# Altium integrated library TI Amplifiers and Linear Operational Amplifier High Speed.IntLib: 1100 symbols (part 38 of 44)
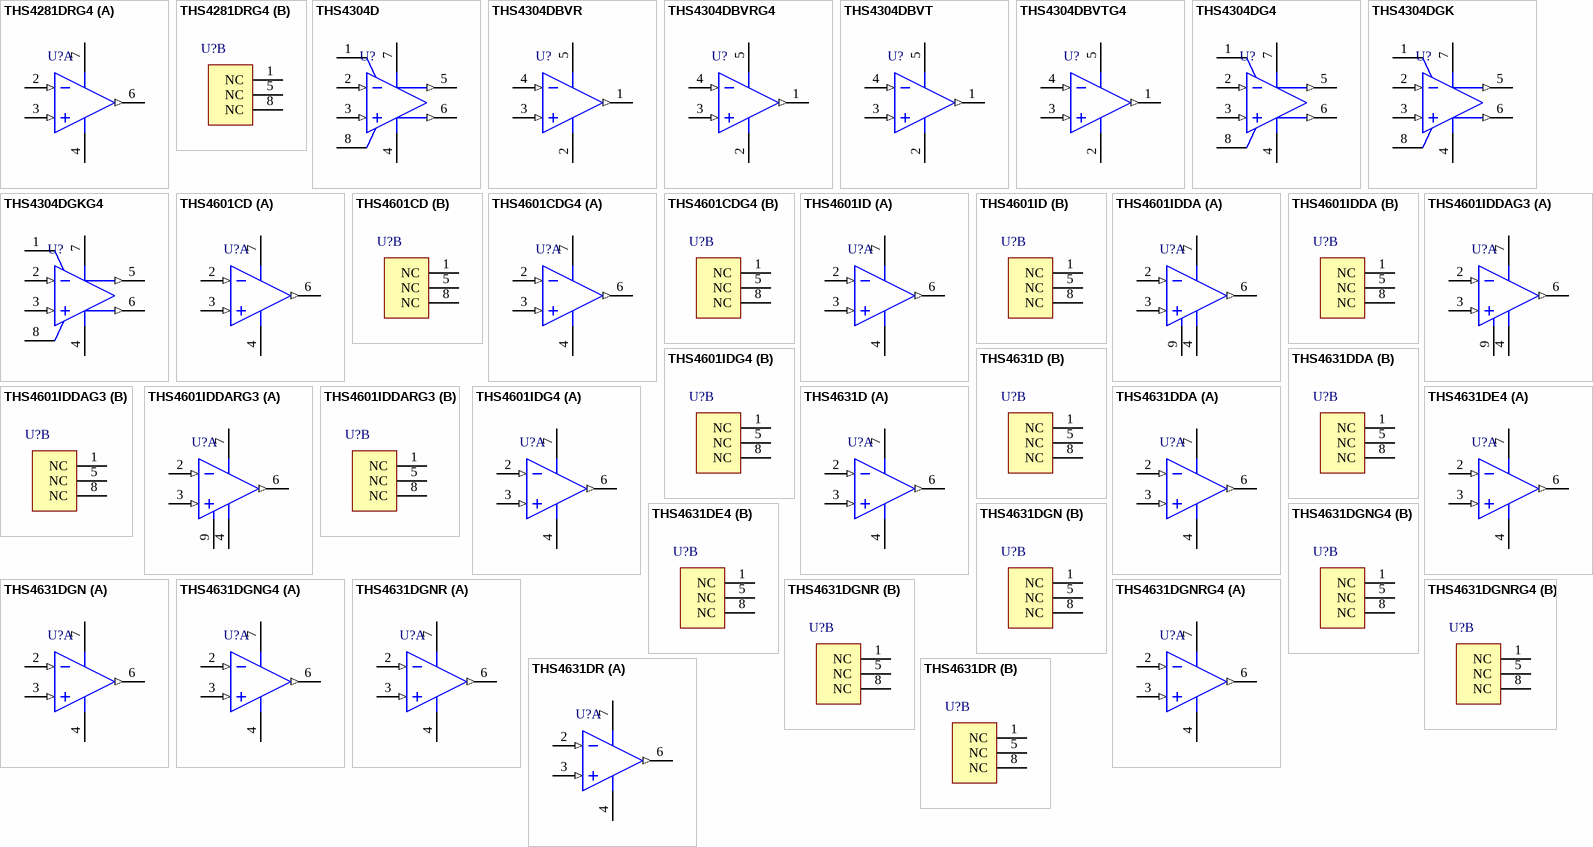
[diagram p88: symbols THS4281DRG4 to THS4631DR]

## THS4304DGKG4
designator U?
Wideband Operational Amplifier, 2.7 to 5 V, -40 to 85 degC, 8-pin SOP (DGK8), Green (RoHS & no Sb/Br); Manufacturer: Texas Instruments; PartNumber: THS4304DGKG4; Acl, min stable gain(V/V): 1; BW @ Acl(MHz): 3000; Io(Typ)(mA): 100; Slew Rate(Typ)(V/us): 830; Sub Family: High Output Current Amplifier (>=50mA), High Speed Amplifier (>=50MHz); Vio(Max)(mV): 4; Vs(Max)(V): 5; Vs(Min)(V): 2.7; DatasheetVersion: SLOS436A; PackageVersion: 4073329/E, 05/2006; PackageReference: DGK8; PackageDescription: 8-Pin Thin Small Outline, Body 3 x 3 mm, Pitch 0.65 mm; Supplier 1: Digi-Key; Supplier Part Number 1: THS4304DGKG4-ND; Supplier 2: Mouser; Supplier Part Number 2: 595-THS4304DGKG4; Eco-Plan: Green (RoHS & no Sb/Br); Number of Channels: 1; Mounting Technology: Surface Mount; Code_JEDEC: MO-187; ComponentLink1Description: Manufacturer URL; ComponentLink1URL: http://www.ti.com/; ComponentLink2Description: Datasheet; ComponentLink2URL: http://www.ti.com/general/docs/lit/getliterature.tsp?genericPartNumber=THS4304&fileType=pdf; ComponentLink3Description: Package Specification; ComponentLink3URL: http://www.ti.com/litv/pdf/mpds028d
footprint TI-DGK8_N (SOP, 8-Leads, Body 3x3mm, Pitch 0.65mm, IPC Medium Density)
footprint TI-DGK8_L (SOP, 8-Leads, Body 3x3mm, Pitch 0.65mm, IPC High Density)
footprint TI-DGK8_M (SOP, 8-Leads, Body 3x3mm, Pitch 0.65mm, IPC Low Density)
pins: 1 NC, 2 IN- (in), 3 IN+ (in), 4 VS- (power), 5 VOUT (out), 6 VOUT (out), 7 VS+ (power), 8 NC

## THS4601CD
designator U?
Wideband, FET-Input Operational Amplifier, 10 to 30 V, 0 to 70 degC, 8-pin SOIC (D8), Green (RoHS & no Sb/Br); Manufacturer: Texas Instruments; PartNumber: THS4601CD; 2nd Harmonic(dBc): 77; 3rd Harmonic(dBc): 96; @ MHz: 1; BW @ Acl(MHz): 180; Diff Gain(%): 0.02; Diff Phase(deg): 0.08; Iib(Max)(nA): 0.1; Io(Typ)(mA): 50; Iq per channel(Max)(mA): 11.7; Settling Time (0.1%)(Typ)(ns): 135; Slew Rate(Typ)(V/us): 100; Sub Family: High Output Current Amplifier (>=50mA), High Speed Amplifier (>=50MHz), High Supply Voltage Amplifier (>=30V); THD (Fc is 1 MHz)(Typ)(dB): -76; Vio(Max)(mV): 4; Vn at Flatband(Typ)(nV/rtHz): 5.4; Vs(Max)(V): 30; Vs(Min)(V): 10; DatasheetVersion: SLOS388B; PackageVersion: 4040047-3/M, 06/2011; PackageReference: D8; PackageDescription: 8-Pin Plastic Small Outline, Body 4.9 x 3.9 mm, Pitch 1.27 mm; Supplier 1: Digi-Key; Supplier Part Number 1: 296-34230-5-ND; Supplier 2: Newark; Supplier Part Number 2: 76C6480; Supplier 3: Mouser; Supplier Part Number 3: 595-THS4601CD; Acl, min stable gain(V/V): 1; Eco-Plan: Green (RoHS & no Sb/Br); Number of Channels: 1; Mounting Technology: Surface Mount; Code_JEDEC: MS-012; ComponentLink1Description: Manufacturer URL; ComponentLink1URL: http://www.ti.com/; ComponentLink2Description: Datasheet; ComponentLink2URL: http://www.ti.com/general/docs/lit/getliterature.tsp?genericPartNumber=THS4601&fileType=pdf; ComponentLink3Description: Package Specification; ComponentLink3URL: http://www.ti.com/litv/pdf/msoi002j
footprint TI-D8_N (SOIC, 8-Leads, Body 4.9x3.9mm, Pitch 1.27mm, IPC Medium Density)
footprint TI-D8_L (SOIC, 8-Leads, Body 4.9x3.9mm, Pitch 1.27mm, IPC High Density)
footprint TI-D8_M (SOIC, 8-Leads, Body 4.9x3.9mm, Pitch 1.27mm, IPC Low Density)
part A pins: 2 IN- (in), 3 IN+ (in), 4 VS- (power), 6 OUT (out), 7 VS+ (power)
part B pins: 1 NC, 5 NC, 8 NC

## THS4601CDG4
designator U?
Wideband, FET-Input Operational Amplifier, 10 to 30 V, 0 to 70 degC, 8-pin SOIC (D8), Green (RoHS & no Sb/Br); Manufacturer: Texas Instruments; PartNumber: THS4601CDG4; 2nd Harmonic(dBc): 77; 3rd Harmonic(dBc): 96; @ MHz: 1; BW @ Acl(MHz): 180; Diff Gain(%): 0.02; Diff Phase(deg): 0.08; Iib(Max)(nA): 0.1; Io(Typ)(mA): 50; Iq per channel(Max)(mA): 11.7; Settling Time (0.1%)(Typ)(ns): 135; Slew Rate(Typ)(V/us): 100; Sub Family: High Output Current Amplifier (>=50mA), High Speed Amplifier (>=50MHz), High Supply Voltage Amplifier (>=30V); THD (Fc is 1 MHz)(Typ)(dB): -76; Vio(Max)(mV): 4; Vn at Flatband(Typ)(nV/rtHz): 5.4; Vs(Max)(V): 30; Vs(Min)(V): 10; DatasheetVersion: SLOS388B; PackageVersion: 4040047-3/M, 06/2011; PackageReference: D8; PackageDescription: 8-Pin Plastic Small Outline, Body 4.9 x 3.9 mm, Pitch 1.27 mm; Supplier 1: Digi-Key; Supplier Part Number 1: THS4601CDG4-ND; Supplier 2: Newark; Supplier Part Number 2: 81K4047; Supplier 3: Mouser; Supplier Part Number 3: 595-THS4601CDG4; Acl, min stable gain(V/V): 1; Eco-Plan: Green (RoHS & no Sb/Br); Number of Channels: 1; Mounting Technology: Surface Mount; Code_JEDEC: MS-012; ComponentLink1Description: Manufacturer URL; ComponentLink1URL: http://www.ti.com/; ComponentLink2Description: Datasheet; ComponentLink2URL: http://www.ti.com/general/docs/lit/getliterature.tsp?genericPartNumber=THS4601&fileType=pdf; ComponentLink3Description: Package Specification; ComponentLink3URL: http://www.ti.com/litv/pdf/msoi002j
footprint TI-D8_N (SOIC, 8-Leads, Body 4.9x3.9mm, Pitch 1.27mm, IPC Medium Density)
footprint TI-D8_L (SOIC, 8-Leads, Body 4.9x3.9mm, Pitch 1.27mm, IPC High Density)
footprint TI-D8_M (SOIC, 8-Leads, Body 4.9x3.9mm, Pitch 1.27mm, IPC Low Density)
part A pins: 2 IN- (in), 3 IN+ (in), 4 VS- (power), 6 OUT (out), 7 VS+ (power)
part B pins: 1 NC, 5 NC, 8 NC

## THS4601ID
designator U?
Wideband, FET-Input Operational Amplifier, 10 to 30 V, -40 to 85 degC, 8-pin SOIC (D8), Green (RoHS & no Sb/Br); Manufacturer: Texas Instruments; PartNumber: THS4601ID; 2nd Harmonic(dBc): 77; 3rd Harmonic(dBc): 96; @ MHz: 1; BW @ Acl(MHz): 180; Diff Gain(%): 0.02; Diff Phase(deg): 0.08; Iib(Max)(nA): 0.1; Io(Typ)(mA): 50; Iq per channel(Max)(mA): 11.7; Settling Time (0.1%)(Typ)(ns): 135; Slew Rate(Typ)(V/us): 100; Sub Family: High Output Current Amplifier (>=50mA), High Speed Amplifier (>=50MHz), High Supply Voltage Amplifier (>=30V); THD (Fc is 1 MHz)(Typ)(dB): -76; Vio(Max)(mV): 4; Vn at Flatband(Typ)(nV/rtHz): 5.4; Vs(Max)(V): 30; Vs(Min)(V): 10; DatasheetVersion: SLOS388B; PackageVersion: 4040047-3/M, 06/2011; PackageReference: D8; PackageDescription: 8-Pin Plastic Small Outline, Body 4.9 x 3.9 mm, Pitch 1.27 mm; Supplier 1: Digi-Key; Supplier Part Number 1: 296-12495-5-ND; Supplier 2: Newark; Supplier Part Number 2: 76C6484; Supplier 3: Mouser; Supplier Part Number 3: 595-THS4601ID; Acl, min stable gain(V/V): 1; Eco-Plan: Green (RoHS & no Sb/Br); Number of Channels: 1; Mounting Technology: Surface Mount; Code_JEDEC: MS-012; ComponentLink1Description: Manufacturer URL; ComponentLink1URL: http://www.ti.com/; ComponentLink2Description: Datasheet; ComponentLink2URL: http://www.ti.com/general/docs/lit/getliterature.tsp?genericPartNumber=THS4601&fileType=pdf; ComponentLink3Description: Package Specification; ComponentLink3URL: http://www.ti.com/litv/pdf/msoi002j
footprint TI-D8_N (SOIC, 8-Leads, Body 4.9x3.9mm, Pitch 1.27mm, IPC Medium Density)
footprint TI-D8_L (SOIC, 8-Leads, Body 4.9x3.9mm, Pitch 1.27mm, IPC High Density)
footprint TI-D8_M (SOIC, 8-Leads, Body 4.9x3.9mm, Pitch 1.27mm, IPC Low Density)
part A pins: 2 IN- (in), 3 IN+ (in), 4 VS- (power), 6 OUT (out), 7 VS+ (power)
part B pins: 1 NC, 5 NC, 8 NC

## THS4601IDDA
designator U?
Wideband, FET-Input Operational Amplifier, 10 to 30 V, -40 to 85 degC, 8-pin SOP (DDA8), Green (RoHS & no Sb/Br); Manufacturer: Texas Instruments; PartNumber: THS4601IDDA; 2nd Harmonic(dBc): 77; 3rd Harmonic(dBc): 96; @ MHz: 1; BW @ Acl(MHz): 180; Diff Gain(%): 0.02; Diff Phase(deg): 0.08; Iib(Max)(nA): 0.1; Io(Typ)(mA): 50; Iq per channel(Max)(mA): 11.7; Settling Time (0.1%)(Typ)(ns): 135; Slew Rate(Typ)(V/us): 100; Sub Family: High Output Current Amplifier (>=50mA), High Speed Amplifier (>=50MHz), High Supply Voltage Amplifier (>=30V); THD (Fc is 1 MHz)(Typ)(dB): -76; Vio(Max)(mV): 4; Vn at Flatband(Typ)(nV/rtHz): 5.4; Vs(Max)(V): 30; Vs(Min)(V): 10; DatasheetVersion: SLOS388B; PackageVersion: 4202561/F, 12/2011; PackageReference: DDA8-3025X2335TP; PackageDescription: 8-Pin PowerPAD(TM) Plastic Small Outline, Body 4.9 x 3.9 mm, Pitch 1.27 mm; Supplier 1: Digi-Key; Supplier Part Number 1: 296-16691-ND; Supplier 2: Newark; Supplier Part Number 2: 76C6485; Supplier 3: Mouser; Supplier Part Number 3: 595-THS4601IDDA; Acl, min stable gain(V/V): 1; Eco-Plan: Green (RoHS & no Sb/Br); Number of Channels: 1; Mounting Technology: Surface Mount; Code_JEDEC: MS-012; ComponentLink1Description: Manufacturer URL; ComponentLink1URL: http://www.ti.com/; ComponentLink2Description: Datasheet; ComponentLink2URL: http://www.ti.com/general/docs/lit/getliterature.tsp?genericPartNumber=THS4601&fileType=pdf; ComponentLink3Description: Package Specification; ComponentLink3URL: http://www.ti.com/litv/pdf/mpds092e
footprint TI-DDA8-3025X2335TP_N (SOP, 8-Leads, Body 4.9x3.9mm, Pitch 1.27mm, Thermal Pad 3.025x2.335mm, IPC Medium Density)
footprint TI-DDA8-3025X2335TP_L (SOP, 8-Leads, Body 4.9x3.9mm, Pitch 1.27mm, Thermal Pad 3.025x2.335mm, IPC High Density)
footprint TI-DDA8-3025X2335TP_M (SOP, 8-Leads, Body 4.9x3.9mm, Pitch 1.27mm, Thermal Pad 3.025x2.335mm, IPC Low Density)
part A pins: 2 IN- (in) "Inverting input of the amplifier", 3 IN+ (in) "Noninverting input of the amplifier", 4 VS- (power) "Negative power supply", 6 OUT (out) "Output of the amplifier", 7 VS+ (power) "Positive power supply", 9 EP "Exposed Thermal Pad."
part B pins: 1 NC "These pins have no internal connection.", 5 NC "These pins have no internal connection.", 8 NC "These pins have no internal connection."

## THS4601IDDAG3
designator U?
Wideband, FET-Input Operational Amplifier, 10 to 30 V, -40 to 85 degC, 8-pin SOP (DDA8), Green (RoHS & no Sb/Br); Manufacturer: Texas Instruments; PartNumber: THS4601IDDAG3; 2nd Harmonic(dBc): 77; 3rd Harmonic(dBc): 96; @ MHz: 1; BW @ Acl(MHz): 180; Diff Gain(%): 0.02; Diff Phase(deg): 0.08; Iib(Max)(nA): 0.1; Io(Typ)(mA): 50; Iq per channel(Max)(mA): 11.7; Settling Time (0.1%)(Typ)(ns): 135; Slew Rate(Typ)(V/us): 100; Sub Family: High Output Current Amplifier (>=50mA), High Speed Amplifier (>=50MHz), High Supply Voltage Amplifier (>=30V); THD (Fc is 1 MHz)(Typ)(dB): -76; Vio(Max)(mV): 4; Vn at Flatband(Typ)(nV/rtHz): 5.4; Vs(Max)(V): 30; Vs(Min)(V): 10; DatasheetVersion: SLOS388B; PackageVersion: 4202561/F, 12/2011; PackageReference: DDA8-3025X2335TP; PackageDescription: 8-Pin PowerPAD(TM) Plastic Small Outline, Body 4.9 x 3.9 mm, Pitch 1.27 mm; Supplier 1: Digi-Key; Supplier Part Number 1: THS4601IDDAG3-ND; Supplier 2: Mouser; Supplier Part Number 2: 595-THS4601IDDAG3; Acl, min stable gain(V/V): 1; Eco-Plan: Green (RoHS & no Sb/Br); Number of Channels: 1; Mounting Technology: Surface Mount; Code_JEDEC: MS-012; ComponentLink1Description: Manufacturer URL; ComponentLink1URL: http://www.ti.com/; ComponentLink2Description: Datasheet; ComponentLink2URL: http://www.ti.com/general/docs/lit/getliterature.tsp?genericPartNumber=THS4601&fileType=pdf; ComponentLink3Description: Package Specification; ComponentLink3URL: http://www.ti.com/litv/pdf/mpds092e
footprint TI-DDA8-3025X2335TP_N (SOP, 8-Leads, Body 4.9x3.9mm, Pitch 1.27mm, Thermal Pad 3.025x2.335mm, IPC Medium Density)
footprint TI-DDA8-3025X2335TP_L (SOP, 8-Leads, Body 4.9x3.9mm, Pitch 1.27mm, Thermal Pad 3.025x2.335mm, IPC High Density)
footprint TI-DDA8-3025X2335TP_M (SOP, 8-Leads, Body 4.9x3.9mm, Pitch 1.27mm, Thermal Pad 3.025x2.335mm, IPC Low Density)
part A pins: 2 IN- (in) "Inverting input of the amplifier", 3 IN+ (in) "Noninverting input of the amplifier", 4 VS- (power) "Negative power supply", 6 OUT (out) "Output of the amplifier", 7 VS+ (power) "Positive power supply", 9 EP "Exposed Thermal Pad."
part B pins: 1 NC "These pins have no internal connection.", 5 NC "These pins have no internal connection.", 8 NC "These pins have no internal connection."

## THS4601IDDARG3
designator U?
Wideband, FET-Input Operational Amplifier, 10 to 30 V, -40 to 85 degC, 8-pin SOP (DDA8); Manufacturer: Texas Instruments; PartNumber: THS4601IDDARG3; 2nd Harmonic(dBc): 77; 3rd Harmonic(dBc): 96; @ MHz: 1; BW @ Acl(MHz): 180; Diff Gain(%): 0.02; Diff Phase(deg): 0.08; Iib(Max)(nA): 0.1; Io(Typ)(mA): 50; Iq per channel(Max)(mA): 11.7; Settling Time (0.1%)(Typ)(ns): 135; Slew Rate(Typ)(V/us): 100; Sub Family: High Output Current Amplifier (>=50mA), High Speed Amplifier (>=50MHz), High Supply Voltage Amplifier (>=30V); THD (Fc is 1 MHz)(Typ)(dB): -76; Vio(Max)(mV): 4; Vn at Flatband(Typ)(nV/rtHz): 5.4; Vs(Max)(V): 30; Vs(Min)(V): 10; DatasheetVersion: SLOS388B; PackageVersion: 4202561/F, 12/2011; PackageReference: DDA8-3025X2335TP; PackageDescription: 8-Pin PowerPAD(TM) Plastic Small Outline, Body 4.9 x 3.9 mm, Pitch 1.27 mm; Supplier 1: Digi-Key; Supplier Part Number 1: THS4601IDDARG3-ND; Supplier 2: Mouser; Supplier Part Number 2: 595-THS4601IDDARG3; Acl, min stable gain(V/V): 1; Number of Channels: 1; Mounting Technology: Surface Mount; Code_JEDEC: MS-012; ComponentLink1Description: Manufacturer URL; ComponentLink1URL: http://www.ti.com/; ComponentLink2Description: Datasheet; ComponentLink2URL: http://www.ti.com/general/docs/lit/getliterature.tsp?genericPartNumber=THS4601&fileType=pdf; ComponentLink3Description: Package Specification; ComponentLink3URL: http://www.ti.com/litv/pdf/mpds092e
footprint TI-DDA8-3025X2335TP_N (SOP, 8-Leads, Body 4.9x3.9mm, Pitch 1.27mm, Thermal Pad 3.025x2.335mm, IPC Medium Density)
footprint TI-DDA8-3025X2335TP_L (SOP, 8-Leads, Body 4.9x3.9mm, Pitch 1.27mm, Thermal Pad 3.025x2.335mm, IPC High Density)
footprint TI-DDA8-3025X2335TP_M (SOP, 8-Leads, Body 4.9x3.9mm, Pitch 1.27mm, Thermal Pad 3.025x2.335mm, IPC Low Density)
part A pins: 2 IN- (in) "Inverting input of the amplifier", 3 IN+ (in) "Noninverting input of the amplifier", 4 VS- (power) "Negative power supply", 6 OUT (out) "Output of the amplifier", 7 VS+ (power) "Positive power supply", 9 EP "Exposed Thermal Pad."
part B pins: 1 NC "These pins have no internal connection.", 5 NC "These pins have no internal connection.", 8 NC "These pins have no internal connection."

## THS4601IDG4
designator U?
Wideband, FET-Input Operational Amplifier, 10 to 30 V, -40 to 85 degC, 8-pin SOIC (D8), Green (RoHS & no Sb/Br); Manufacturer: Texas Instruments; PartNumber: THS4601IDG4; 2nd Harmonic(dBc): 77; 3rd Harmonic(dBc): 96; @ MHz: 1; BW @ Acl(MHz): 180; Diff Gain(%): 0.02; Diff Phase(deg): 0.08; Iib(Max)(nA): 0.1; Io(Typ)(mA): 50; Iq per channel(Max)(mA): 11.7; Settling Time (0.1%)(Typ)(ns): 135; Slew Rate(Typ)(V/us): 100; Sub Family: High Output Current Amplifier (>=50mA), High Speed Amplifier (>=50MHz), High Supply Voltage Amplifier (>=30V); THD (Fc is 1 MHz)(Typ)(dB): -76; Vio(Max)(mV): 4; Vn at Flatband(Typ)(nV/rtHz): 5.4; Vs(Max)(V): 30; Vs(Min)(V): 10; DatasheetVersion: SLOS388B; PackageVersion: 4040047-3/M, 06/2011; PackageReference: D8; PackageDescription: 8-Pin Plastic Small Outline, Body 4.9 x 3.9 mm, Pitch 1.27 mm; Supplier 1: Digi-Key; Supplier Part Number 1: THS4601IDG4-ND; Supplier 2: Mouser; Supplier Part Number 2: 595-THS4601IDG4; Acl, min stable gain(V/V): 1; Eco-Plan: Green (RoHS & no Sb/Br); Number of Channels: 1; Mounting Technology: Surface Mount; Code_JEDEC: MS-012; ComponentLink1Description: Manufacturer URL; ComponentLink1URL: http://www.ti.com/; ComponentLink2Description: Datasheet; ComponentLink2URL: http://www.ti.com/general/docs/lit/getliterature.tsp?genericPartNumber=THS4601&fileType=pdf; ComponentLink3Description: Package Specification; ComponentLink3URL: http://www.ti.com/litv/pdf/msoi002j
footprint TI-D8_N (SOIC, 8-Leads, Body 4.9x3.9mm, Pitch 1.27mm, IPC Medium Density)
footprint TI-D8_L (SOIC, 8-Leads, Body 4.9x3.9mm, Pitch 1.27mm, IPC High Density)
footprint TI-D8_M (SOIC, 8-Leads, Body 4.9x3.9mm, Pitch 1.27mm, IPC Low Density)
part A pins: 2 IN- (in), 3 IN+ (in), 4 VS- (power), 6 OUT (out), 7 VS+ (power)
part B pins: 1 NC, 5 NC, 8 NC

## THS4631D
designator U?
High Speed FET-Input Operational Amplifier, 10 to 30 V, -40 to 85 degC, 8-pin SOIC (D8), Green (RoHS & no Sb/Br); Manufacturer: Texas Instruments; PartNumber: THS4631D; Acl, min stable gain(V/V): 1; BW @ Acl(MHz): 325; Iib(Max)(nA): 0.1; Io(Typ)(mA): 95; Iq per channel(Max)(mA): 11.5; Slew Rate(Typ)(V/us): 1000; Sub Family: High Output Current Amplifier (>=50mA), High Speed Amplifier (>=50MHz), High Supply Voltage Amplifier (>=30V), Low Input Bias Current Amp (<=10pA), Low Offset Voltage Amplifier (<=500uV); Vio(Max)(mV): 0.5; Vn at Flatband(Typ)(nV/rtHz): 7; Vs(Max)(V): 30; Vs(Min)(V): 10; DatasheetVersion: SLOS451B; PackageVersion: 4040047-3/M, 06/2011; PackageReference: D8; PackageDescription: 8-Pin Plastic Small Outline, Body 4.9 x 3.9 mm, Pitch 1.27 mm; Supplier 1: Digi-Key; Supplier Part Number 1: 296-17626-5-ND; Supplier 2: Newark; Supplier Part Number 2: 73J8319; Supplier 3: Mouser; Supplier Part Number 3: 595-THS4631D; Eco-Plan: Green (RoHS & no Sb/Br); Number of Channels: 1; Mounting Technology: Surface Mount; Code_JEDEC: MS-012; ComponentLink1Description: Manufacturer URL; ComponentLink1URL: http://www.ti.com/; ComponentLink2Description: Datasheet; ComponentLink2URL: http://www.ti.com/general/docs/lit/getliterature.tsp?genericPartNumber=THS4631&fileType=pdf; ComponentLink3Description: Package Specification; ComponentLink3URL: http://www.ti.com/litv/pdf/msoi002j
footprint TI-D8_N (SOIC, 8-Leads, Body 4.9x3.9mm, Pitch 1.27mm, IPC Medium Density)
footprint TI-D8_L (SOIC, 8-Leads, Body 4.9x3.9mm, Pitch 1.27mm, IPC High Density)
footprint TI-D8_M (SOIC, 8-Leads, Body 4.9x3.9mm, Pitch 1.27mm, IPC Low Density)
part A pins: 2 VIN- (in), 3 VIN+ (in), 4 VS- (power), 6 VOUT (out), 7 VS+ (power)
part B pins: 1 NC, 5 NC, 8 NC

## THS4631DDA
designator U?
High Speed FET-Input Operational Amplifier, 10 to 30 V, -40 to 85 degC, 8-pin SOP (DDA8), Green (RoHS & no Sb/Br); Manufacturer: Texas Instruments; PartNumber: THS4631DDA; Acl, min stable gain(V/V): 1; BW @ Acl(MHz): 325; Iib(Max)(nA): 0.1; Io(Typ)(mA): 95; Iq per channel(Max)(mA): 11.5; Slew Rate(Typ)(V/us): 1000; Sub Family: High Output Current Amplifier (>=50mA), High Speed Amplifier (>=50MHz), High Supply Voltage Amplifier (>=30V), Low Input Bias Current Amp (<=10pA), Low Offset Voltage Amplifier (<=500uV); Vio(Max)(mV): 0.5; Vn at Flatband(Typ)(nV/rtHz): 7; Vs(Max)(V): 30; Vs(Min)(V): 10; DatasheetVersion: SLOS451B; PackageVersion: 4202561/F, 12/2011; PackageReference: DDA8-1775X1775TP; PackageDescription: 8-Pin PowerPAD(TM) Plastic Small Outline, Body 4.9 x 3.9 mm, Pitch 1.27 mm; Supplier 1: Digi-Key; Supplier Part Number 1: 296-17674-5-ND; Supplier 2: Farnell; Supplier Part Number 2: 1703217; Supplier 3: Newark; Supplier Part Number 3: 73J8320; Supplier 4: Mouser; Supplier Part Number 4: 595-THS4631DDA; Eco-Plan: Green (RoHS & no Sb/Br); Number of Channels: 1; Mounting Technology: Surface Mount; Code_JEDEC: MS-012; ComponentLink1Description: Manufacturer URL; ComponentLink1URL: http://www.ti.com/; ComponentLink2Description: Datasheet; ComponentLink2URL: http://www.ti.com/general/docs/lit/getliterature.tsp?genericPartNumber=THS4631&fileType=pdf; ComponentLink3Description: Package Specification; ComponentLink3URL: http://www.ti.com/litv/pdf/mpds092e
footprint TI-DDA8-1775X1775TP_N (SOP, 8-Leads, Body 4.9x3.9mm, Pitch 1.27mm, Thermal Pad 1.775x1.775mm, IPC Medium Density)
footprint TI-DDA8-1775X1775TP_L (SOP, 8-Leads, Body 4.9x3.9mm, Pitch 1.27mm, Thermal Pad 1.775x1.775mm, IPC High Density)
footprint TI-DDA8-1775X1775TP_M (SOP, 8-Leads, Body 4.9x3.9mm, Pitch 1.27mm, Thermal Pad 1.775x1.775mm, IPC Low Density)
part A pins: 2 VIN- (in), 3 VIN+ (in), 4 VS- (power), 6 VOUT (out), 7 VS+ (power)
part B pins: 1 NC, 5 NC, 8 NC

## THS4631DE4
designator U?
High Speed FET-Input Operational Amplifier, 10 to 30 V, -40 to 85 degC, 8-pin SOIC (D8), Green (RoHS & no Sb/Br); Manufacturer: Texas Instruments; PartNumber: THS4631DE4; Acl, min stable gain(V/V): 1; BW @ Acl(MHz): 325; Iib(Max)(nA): 0.1; Io(Typ)(mA): 95; Iq per channel(Max)(mA): 11.5; Slew Rate(Typ)(V/us): 1000; Sub Family: High Output Current Amplifier (>=50mA), High Speed Amplifier (>=50MHz), High Supply Voltage Amplifier (>=30V), Low Input Bias Current Amp (<=10pA), Low Offset Voltage Amplifier (<=500uV); Vio(Max)(mV): 0.5; Vn at Flatband(Typ)(nV/rtHz): 7; Vs(Max)(V): 30; Vs(Min)(V): 10; DatasheetVersion: SLOS451B; PackageVersion: 4040047-3/M, 06/2011; PackageReference: D8; PackageDescription: 8-Pin Plastic Small Outline, Body 4.9 x 3.9 mm, Pitch 1.27 mm; Supplier 1: Digi-Key; Supplier Part Number 1: THS4631DE4-ND; Supplier 2: Mouser; Supplier Part Number 2: 595-THS4631DE4; Eco-Plan: Green (RoHS & no Sb/Br); Number of Channels: 1; Mounting Technology: Surface Mount; Code_JEDEC: MS-012; ComponentLink1Description: Manufacturer URL; ComponentLink1URL: http://www.ti.com/; ComponentLink2Description: Datasheet; ComponentLink2URL: http://www.ti.com/general/docs/lit/getliterature.tsp?genericPartNumber=THS4631&fileType=pdf; ComponentLink3Description: Package Specification; ComponentLink3URL: http://www.ti.com/litv/pdf/msoi002j
footprint TI-D8_N (SOIC, 8-Leads, Body 4.9x3.9mm, Pitch 1.27mm, IPC Medium Density)
footprint TI-D8_L (SOIC, 8-Leads, Body 4.9x3.9mm, Pitch 1.27mm, IPC High Density)
footprint TI-D8_M (SOIC, 8-Leads, Body 4.9x3.9mm, Pitch 1.27mm, IPC Low Density)
part A pins: 2 VIN- (in), 3 VIN+ (in), 4 VS- (power), 6 VOUT (out), 7 VS+ (power)
part B pins: 1 NC, 5 NC, 8 NC

## THS4631DGN
designator U?
High Speed FET-Input Operational Amplifier, 10 to 30 V, -40 to 85 degC, 8-pin SOIC (DGN8), Green (RoHS & no Sb/Br); Manufacturer: Texas Instruments; PartNumber: THS4631DGN; Acl, min stable gain(V/V): 1; BW @ Acl(MHz): 325; Iib(Max)(nA): 0.1; Io(Typ)(mA): 95; Iq per channel(Max)(mA): 11.5; Slew Rate(Typ)(V/us): 1000; Sub Family: High Output Current Amplifier (>=50mA), High Speed Amplifier (>=50MHz), High Supply Voltage Amplifier (>=30V), Low Input Bias Current Amp (<=10pA), Low Offset Voltage Amplifier (<=500uV); Vio(Max)(mV): 0.5; Vn at Flatband(Typ)(nV/rtHz): 7; Vs(Max)(V): 30; Vs(Min)(V): 10; DatasheetVersion: SLOS451B; PackageVersion: 4073271/F, 05/2011; PackageReference: DGN8-1760X1425TP; PackageDescription: 8-pin Plastic Small Outline, Body 3 x 3 mm, Pitch 0.65 mm; Supplier 1: Digi-Key; Supplier Part Number 1: 296-17675-5-ND; Supplier 2: Newark; Supplier Part Number 2: 73J8322; Supplier 3: Mouser; Supplier Part Number 3: 595-THS4631DGN; Eco-Plan: Green (RoHS & no Sb/Br); Number of Channels: 1; Mounting Technology: Surface Mount; Code_JEDEC: MO-187; ComponentLink1Description: Manufacturer URL; ComponentLink1URL: http://www.ti.com/; ComponentLink2Description: Datasheet; ComponentLink2URL: http://www.ti.com/general/docs/lit/getliterature.tsp?genericPartNumber=THS4631&fileType=pdf; ComponentLink3Description: Package Specification; ComponentLink3URL: http://www.ti.com/litv/pdf/mpds046e
footprint TI-DGN8-1760X1425TP_N (SOP, 8-Leads, Body 3x3mm, Pitch 0.65mm, Thermal Pad 1.76x1.425mm, IPC Medium Density)
footprint TI-DGN8-1760X1425TP_L (SOP, 8-Leads, Body 3x3mm, Pitch 0.65mm, Thermal Pad 1.76x1.425mm, IPC High Density)
footprint TI-DGN8-1760X1425TP_M (SOP, 8-Leads, Body 3x3mm, Pitch 0.65mm, Thermal Pad 1.76 x 1.425 mm, IPC Low Density)
part A pins: 2 VIN- (in), 3 VIN+ (in), 4 VS- (power), 6 VOUT (out), 7 VS+ (power)
part B pins: 1 NC, 5 NC, 8 NC

## THS4631DGNG4
designator U?
High Speed FET-Input Operational Amplifier, 10 to 30 V, -40 to 85 degC, 8-pin SOIC (DGN8), Green (RoHS & no Sb/Br); Manufacturer: Texas Instruments; PartNumber: THS4631DGNG4; Acl, min stable gain(V/V): 1; BW @ Acl(MHz): 325; Iib(Max)(nA): 0.1; Io(Typ)(mA): 95; Iq per channel(Max)(mA): 11.5; Slew Rate(Typ)(V/us): 1000; Sub Family: High Output Current Amplifier (>=50mA), High Speed Amplifier (>=50MHz), High Supply Voltage Amplifier (>=30V), Low Input Bias Current Amp (<=10pA), Low Offset Voltage Amplifier (<=500uV); Vio(Max)(mV): 0.5; Vn at Flatband(Typ)(nV/rtHz): 7; Vs(Max)(V): 30; Vs(Min)(V): 10; DatasheetVersion: SLOS451B; PackageVersion: 4073271/F, 05/2011; PackageReference: DGN8-1760X1425TP; PackageDescription: 8-pin Plastic Small Outline, Body 3 x 3 mm, Pitch 0.65 mm; Supplier 1: Digi-Key; Supplier Part Number 1: THS4631DGNG4-ND; Supplier 2: Mouser; Supplier Part Number 2: 595-THS4631DGNG4; Eco-Plan: Green (RoHS & no Sb/Br); Number of Channels: 1; Mounting Technology: Surface Mount; Code_JEDEC: MO-187; ComponentLink1Description: Manufacturer URL; ComponentLink1URL: http://www.ti.com/; ComponentLink2Description: Datasheet; ComponentLink2URL: http://www.ti.com/general/docs/lit/getliterature.tsp?genericPartNumber=THS4631&fileType=pdf; ComponentLink3Description: Package Specification; ComponentLink3URL: http://www.ti.com/litv/pdf/mpds046e
footprint TI-DGN8-1760X1425TP_N (SOP, 8-Leads, Body 3x3mm, Pitch 0.65mm, Thermal Pad 1.76x1.425mm, IPC Medium Density)
footprint TI-DGN8-1760X1425TP_L (SOP, 8-Leads, Body 3x3mm, Pitch 0.65mm, Thermal Pad 1.76x1.425mm, IPC High Density)
footprint TI-DGN8-1760X1425TP_M (SOP, 8-Leads, Body 3x3mm, Pitch 0.65mm, Thermal Pad 1.76 x 1.425 mm, IPC Low Density)
part A pins: 2 VIN- (in), 3 VIN+ (in), 4 VS- (power), 6 VOUT (out), 7 VS+ (power)
part B pins: 1 NC, 5 NC, 8 NC

## THS4631DGNR
designator U?
High Speed FET-Input Operational Amplifier, 10 to 30 V, -40 to 85 degC, 8-pin SOIC (DGN8), Green (RoHS & no Sb/Br); Manufacturer: Texas Instruments; PartNumber: THS4631DGNR; Acl, min stable gain(V/V): 1; BW @ Acl(MHz): 325; Iib(Max)(nA): 0.1; Io(Typ)(mA): 95; Iq per channel(Max)(mA): 11.5; Slew Rate(Typ)(V/us): 1000; Sub Family: High Output Current Amplifier (>=50mA), High Speed Amplifier (>=50MHz), High Supply Voltage Amplifier (>=30V), Low Input Bias Current Amp (<=10pA), Low Offset Voltage Amplifier (<=500uV); Vio(Max)(mV): 0.5; Vn at Flatband(Typ)(nV/rtHz): 7; Vs(Max)(V): 30; Vs(Min)(V): 10; DatasheetVersion: SLOS451B; PackageVersion: 4073271/F, 05/2011; PackageReference: DGN8-1760X1425TP; PackageDescription: 8-pin Plastic Small Outline, Body 3 x 3 mm, Pitch 0.65 mm; Supplier 1: Digi-Key; Supplier Part Number 1: THS4631DGNR-ND; Supplier 2: Mouser; Supplier Part Number 2: 595-THS4631DGNR; Eco-Plan: Green (RoHS & no Sb/Br); Number of Channels: 1; Mounting Technology: Surface Mount; Code_JEDEC: MO-187; ComponentLink1Description: Manufacturer URL; ComponentLink1URL: http://www.ti.com/; ComponentLink2Description: Datasheet; ComponentLink2URL: http://www.ti.com/general/docs/lit/getliterature.tsp?genericPartNumber=THS4631&fileType=pdf; ComponentLink3Description: Package Specification; ComponentLink3URL: http://www.ti.com/litv/pdf/mpds046e
footprint TI-DGN8-1760X1425TP_N (SOP, 8-Leads, Body 3x3mm, Pitch 0.65mm, Thermal Pad 1.76x1.425mm, IPC Medium Density)
footprint TI-DGN8-1760X1425TP_L (SOP, 8-Leads, Body 3x3mm, Pitch 0.65mm, Thermal Pad 1.76x1.425mm, IPC High Density)
footprint TI-DGN8-1760X1425TP_M (SOP, 8-Leads, Body 3x3mm, Pitch 0.65mm, Thermal Pad 1.76 x 1.425 mm, IPC Low Density)
part A pins: 2 VIN- (in), 3 VIN+ (in), 4 VS- (power), 6 VOUT (out), 7 VS+ (power)
part B pins: 1 NC, 5 NC, 8 NC

## THS4631DGNRG4
designator U?
High Speed FET-Input Operational Amplifier, 10 to 30 V, -40 to 85 degC, 8-pin SOIC (DGN8), Green (RoHS & no Sb/Br); Manufacturer: Texas Instruments; PartNumber: THS4631DGNRG4; Acl, min stable gain(V/V): 1; BW @ Acl(MHz): 325; Iib(Max)(nA): 0.1; Io(Typ)(mA): 95; Iq per channel(Max)(mA): 11.5; Slew Rate(Typ)(V/us): 1000; Sub Family: High Output Current Amplifier (>=50mA), High Speed Amplifier (>=50MHz), High Supply Voltage Amplifier (>=30V), Low Input Bias Current Amp (<=10pA), Low Offset Voltage Amplifier (<=500uV); Vio(Max)(mV): 0.5; Vn at Flatband(Typ)(nV/rtHz): 7; Vs(Max)(V): 30; Vs(Min)(V): 10; DatasheetVersion: SLOS451B; PackageVersion: 4073271/F, 05/2011; PackageReference: DGN8-1760X1425TP; PackageDescription: 8-pin Plastic Small Outline, Body 3 x 3 mm, Pitch 0.65 mm; Supplier 1: Digi-Key; Supplier Part Number 1: THS4631DGNRG4-ND; Supplier 2: Mouser; Supplier Part Number 2: 595-THS4631DGNRG4; Eco-Plan: Green (RoHS & no Sb/Br); Number of Channels: 1; Mounting Technology: Surface Mount; Code_JEDEC: MO-187; ComponentLink1Description: Manufacturer URL; ComponentLink1URL: http://www.ti.com/; ComponentLink2Description: Datasheet; ComponentLink2URL: http://www.ti.com/general/docs/lit/getliterature.tsp?genericPartNumber=THS4631&fileType=pdf; ComponentLink3Description: Package Specification; ComponentLink3URL: http://www.ti.com/litv/pdf/mpds046e
footprint TI-DGN8-1760X1425TP_N (SOP, 8-Leads, Body 3x3mm, Pitch 0.65mm, Thermal Pad 1.76x1.425mm, IPC Medium Density)
footprint TI-DGN8-1760X1425TP_L (SOP, 8-Leads, Body 3x3mm, Pitch 0.65mm, Thermal Pad 1.76x1.425mm, IPC High Density)
footprint TI-DGN8-1760X1425TP_M (SOP, 8-Leads, Body 3x3mm, Pitch 0.65mm, Thermal Pad 1.76 x 1.425 mm, IPC Low Density)
part A pins: 2 VIN- (in), 3 VIN+ (in), 4 VS- (power), 6 VOUT (out), 7 VS+ (power)
part B pins: 1 NC, 5 NC, 8 NC

## THS4631DR
designator U?
High Speed FET-Input Operational Amplifier, 10 to 30 V, -40 to 85 degC, 8-pin SOIC (D8), Green (RoHS & no Sb/Br); Manufacturer: Texas Instruments; PartNumber: THS4631DR; Acl, min stable gain(V/V): 1; BW @ Acl(MHz): 325; Iib(Max)(nA): 0.1; Io(Typ)(mA): 95; Iq per channel(Max)(mA): 11.5; Slew Rate(Typ)(V/us): 1000; Sub Family: High Output Current Amplifier (>=50mA), High Speed Amplifier (>=50MHz), High Supply Voltage Amplifier (>=30V), Low Input Bias Current Amp (<=10pA), Low Offset Voltage Amplifier (<=500uV); Vio(Max)(mV): 0.5; Vn at Flatband(Typ)(nV/rtHz): 7; Vs(Max)(V): 30; Vs(Min)(V): 10; DatasheetVersion: SLOS451B; PackageVersion: 4040047-3/M, 06/2011; PackageReference: D8; PackageDescription: 8-Pin Plastic Small Outline, Body 4.9 x 3.9 mm, Pitch 1.27 mm; Supplier 1: Digi-Key; Supplier Part Number 1: THS4631DR-ND; Supplier 2: Newark; Supplier Part Number 2: 73J8324; Supplier 3: Mouser; Supplier Part Number 3: 595-THS4631DR; Eco-Plan: Green (RoHS & no Sb/Br); Number of Channels: 1; Mounting Technology: Surface Mount; Code_JEDEC: MS-012; ComponentLink1Description: Manufacturer URL; ComponentLink1URL: http://www.ti.com/; ComponentLink2Description: Datasheet; ComponentLink2URL: http://www.ti.com/general/docs/lit/getliterature.tsp?genericPartNumber=THS4631&fileType=pdf; ComponentLink3Description: Package Specification; ComponentLink3URL: http://www.ti.com/litv/pdf/msoi002j
footprint TI-D8_N (SOIC, 8-Leads, Body 4.9x3.9mm, Pitch 1.27mm, IPC Medium Density)
footprint TI-D8_L (SOIC, 8-Leads, Body 4.9x3.9mm, Pitch 1.27mm, IPC High Density)
footprint TI-D8_M (SOIC, 8-Leads, Body 4.9x3.9mm, Pitch 1.27mm, IPC Low Density)
part A pins: 2 VIN- (in), 3 VIN+ (in), 4 VS- (power), 6 VOUT (out), 7 VS+ (power)
part B pins: 1 NC, 5 NC, 8 NC

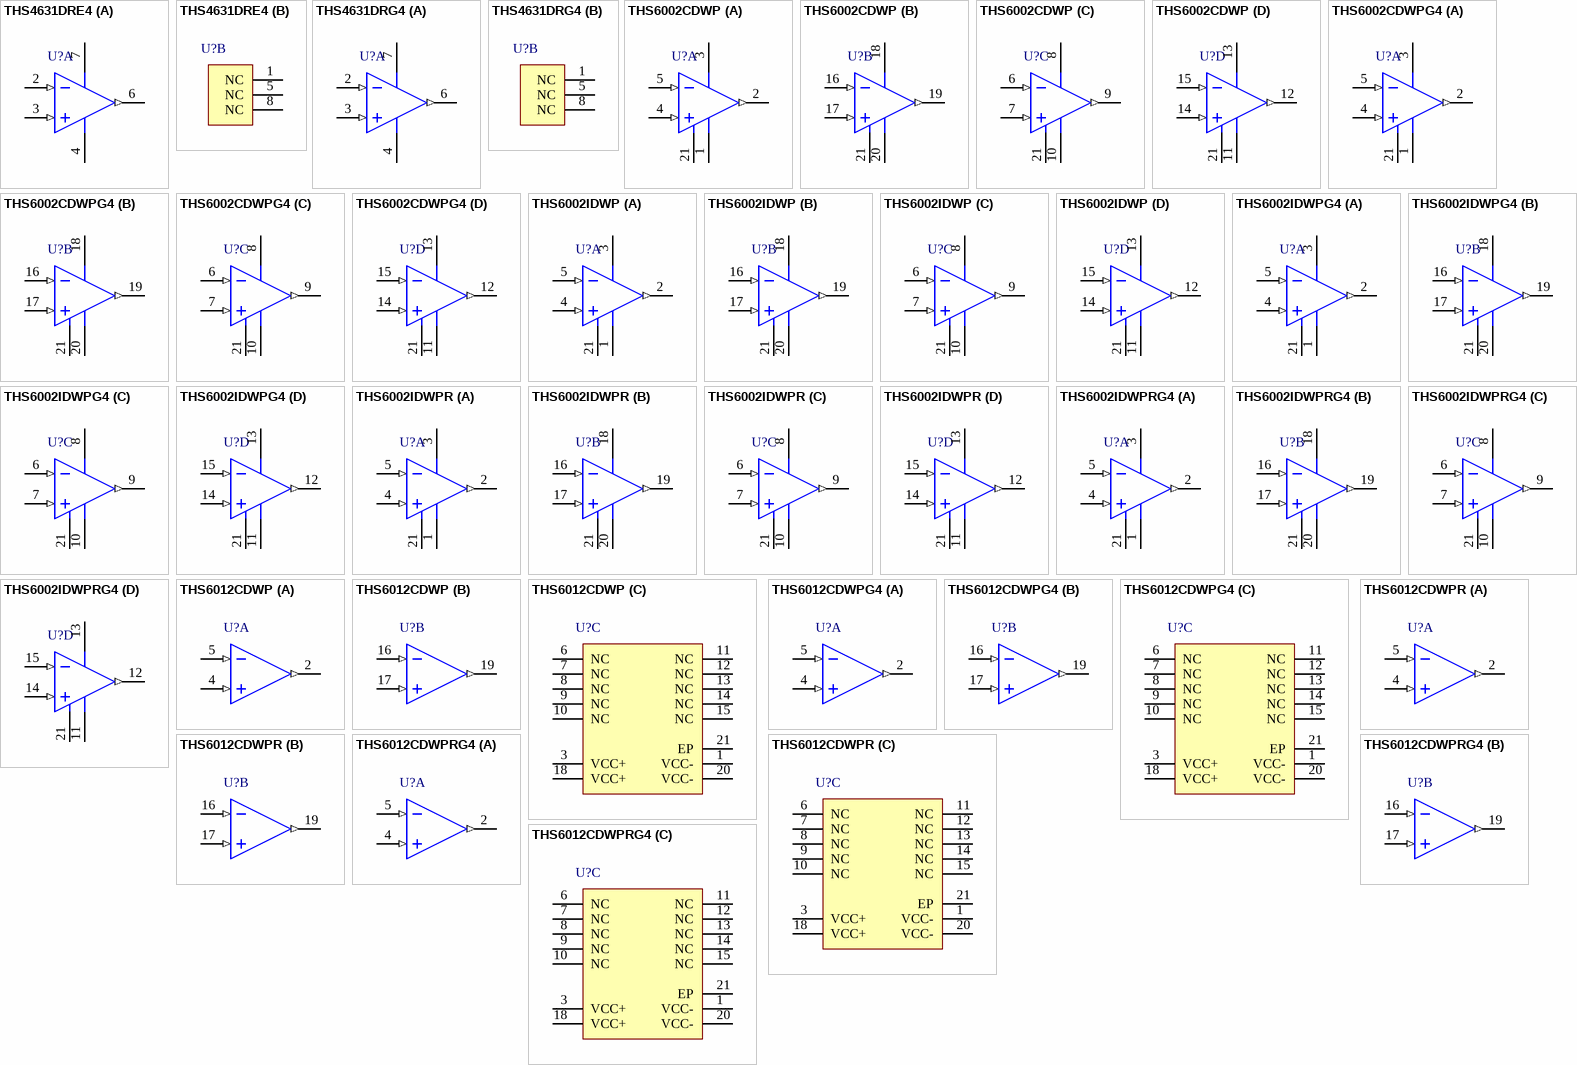
[diagram p44: symbols THS4631DRE4 to THS6012CDWPRG4]

## THS4631DRE4
designator U?
High Speed FET-Input Operational Amplifier, 10 to 30 V, -40 to 85 degC, 8-pin SOIC (D8), Green (RoHS & no Sb/Br); Manufacturer: Texas Instruments; PartNumber: THS4631DRE4; Acl, min stable gain(V/V): 1; BW @ Acl(MHz): 325; Iib(Max)(nA): 0.1; Io(Typ)(mA): 95; Iq per channel(Max)(mA): 11.5; Slew Rate(Typ)(V/us): 1000; Sub Family: High Output Current Amplifier (>=50mA), High Speed Amplifier (>=50MHz), High Supply Voltage Amplifier (>=30V), Low Input Bias Current Amp (<=10pA), Low Offset Voltage Amplifier (<=500uV); Vio(Max)(mV): 0.5; Vn at Flatband(Typ)(nV/rtHz): 7; Vs(Max)(V): 30; Vs(Min)(V): 10; DatasheetVersion: SLOS451B; PackageVersion: 4040047-3/M, 06/2011; PackageReference: D8; PackageDescription: 8-Pin Plastic Small Outline, Body 4.9 x 3.9 mm, Pitch 1.27 mm; Supplier 1: Digi-Key; Supplier Part Number 1: THS4631DRE4-ND; Supplier 2: Mouser; Supplier Part Number 2: 595-THS4631DRE4; Eco-Plan: Green (RoHS & no Sb/Br); Number of Channels: 1; Mounting Technology: Surface Mount; Code_JEDEC: MS-012; ComponentLink1Description: Manufacturer URL; ComponentLink1URL: http://www.ti.com/; ComponentLink2Description: Datasheet; ComponentLink2URL: http://www.ti.com/general/docs/lit/getliterature.tsp?genericPartNumber=THS4631&fileType=pdf; ComponentLink3Description: Package Specification; ComponentLink3URL: http://www.ti.com/litv/pdf/msoi002j
footprint TI-D8_N (SOIC, 8-Leads, Body 4.9x3.9mm, Pitch 1.27mm, IPC Medium Density)
footprint TI-D8_L (SOIC, 8-Leads, Body 4.9x3.9mm, Pitch 1.27mm, IPC High Density)
footprint TI-D8_M (SOIC, 8-Leads, Body 4.9x3.9mm, Pitch 1.27mm, IPC Low Density)
part A pins: 2 VIN- (in), 3 VIN+ (in), 4 VS- (power), 6 VOUT (out), 7 VS+ (power)
part B pins: 1 NC, 5 NC, 8 NC

## THS4631DRG4
designator U?
High Speed FET-Input Operational Amplifier, 10 to 30 V, -40 to 85 degC, 8-pin SOIC (D8); Manufacturer: Texas Instruments; PartNumber: THS4631DRG4; 2nd Harmonic(dBc): 76; 3rd Harmonic(dBc): 94; @ MHz: 5; Acl, min stable gain(V/V): 1; BW @ Acl(MHz): 325; Iib(Max)(nA): 2; Io(Typ)(mA): 95; Iq per channel(Max)(mA): 11.5; Settling Time (0.1%)(Typ)(ns): 40; Slew Rate(Typ)(V/us): 1000; Sub Family: High Output Current Amplifier (>=50mA), High Speed Amplifier (>=50MHz), High Supply Voltage Amplifier (>=30V), Low Input Bias Current Amp (<=10pA), Low Offset Voltage Amplifier (<=500uV); Vn at Flatband(Typ)(nV/rtHz): 7; Vs(Max)(V): 30; Vs(Min)(V): 10; DatasheetVersion: SLOS451B; PackageVersion: 4040047-3/M, 06/2011; PackageReference: D8; PackageDescription: 8-Pin Plastic Small Outline, Body 4.9 x 3.9 mm, Pitch 1.27 mm; Supplier 1: Mouser; Supplier Part Number 1: N/A; Number of Channels: 1; Vio(Max)(mV): 2; Mounting Technology: Surface Mount; Code_JEDEC: MS-012; ComponentLink1Description: Manufacturer URL; ComponentLink1URL: http://www.ti.com/; ComponentLink2Description: Datasheet; ComponentLink2URL: http://www.ti.com/general/docs/lit/getliterature.tsp?genericPartNumber=THS4631&fileType=pdf; ComponentLink3Description: Package Specification; ComponentLink3URL: http://www.ti.com/litv/pdf/msoi002j
footprint TI-D8_N (SOIC, 8-Leads, Body 4.9x3.9mm, Pitch 1.27mm, IPC Medium Density)
footprint TI-D8_L (SOIC, 8-Leads, Body 4.9x3.9mm, Pitch 1.27mm, IPC High Density)
footprint TI-D8_M (SOIC, 8-Leads, Body 4.9x3.9mm, Pitch 1.27mm, IPC Low Density)
part A pins: 2 VIN- (in), 3 VIN+ (in), 4 VS- (power), 6 VOUT (out), 7 VS+ (power)
part B pins: 1 NC, 5 NC, 8 NC

## THS6002CDWP
designator U?
Dual Differential Line Driver / Receiver, 9 to 32 V, 0 to 70 degC, 20-pin SOP (DWP20), Green (RoHS & no Sb/Br); Manufacturer: Texas Instruments; PartNumber: THS6002CDWP; 2nd Harmonic(dBc): 70; 3rd Harmonic(dBc): 80; @ MHz: 1; BW @ Acl(MHz): 140; Diff Gain(%): 0.05; Diff Phase(deg): 0.08; Iib(Max)(nA): 12000; Io(Typ)(mA): 500; Iq per channel(Max)(mA): 15; Number of Channels: 4; Slew Rate(Typ)(V/us): 1000; Sub Family: High Output Current Amplifier (>=50mA), High Speed Amplifier (>=50MHz), High Supply Voltage Amplifier (>=30V); THD (Fc is 1 MHz)(Typ)(dB): -62; Vio(Max)(mV): 5; Vn at Flatband(Typ)(nV/rtHz): 1.7; Vs(Max)(V): 32; Vs(Min)(V): 9; DatasheetVersion: SLOS202E; PackageVersion: 4147575/C, 02/2005; PackageReference: DWP20-3470X2350TP; PackageDescription: 20-Pin PowerPAD(TM) Plastic Small-Outline Package, Body 12.825 x 7.52 mm, Pitch 1.27 mm; Supplier 1: Digi-Key; Supplier Part Number 1: 296-1765-5-ND; Supplier 2: Newark; Supplier Part Number 2: 76C6504; Supplier 3: Mouser; Supplier Part Number 3: 595-THS6002CDWP; Acl, min stable gain(V/V): 1; Eco-Plan: Green (RoHS & no Sb/Br); Settling Time (0.1%)(Typ)(ns): 70; Mounting Technology: Surface Mount; ComponentLink1Description: Manufacturer URL; ComponentLink1URL: http://www.ti.com/; ComponentLink2Description: Datasheet; ComponentLink2URL: http://www.ti.com/general/docs/lit/getliterature.tsp?genericPartNumber=THS6002&fileType=pdf; ComponentLink3Description: Package Specification; ComponentLink3URL: http://www.ti.com/lit/ml/mpds032b/mpds032b.pdf
footprint TI-DWP20-3470X2350TP_N (SOP, 20-Leads, Body 12.825x7.52mm, Pitch 1.27mm, Thermal Pad 3.47x2.35mm, IPC Medium Density)
footprint TI-DWP20-3470X2350TP_L (SOP, 20-Leads, Body 12.825x7.52mm, Pitch 1.27mm, Thermal Pad 3.47x2.35mm, IPC High Density)
footprint TI-DWP20-3470X2350TP_M (SOP, 20-Leads, Body 12.825x7.52mm, Pitch 1.27mm, Thermal Pad 3.47x2.35mm, IPC Low Density)
pins on every part: 21 EP (power)
part A pins: 1 VCC- (power), 2 OUT D1 (out), 3 VCC+ (power), 4 IN D1+ (in), 5 IN D1- (in)
part B pins: 16 IN D2- (in), 17 IN D2+ (in), 18 VCC+ (power), 19 OUT D2 (out), 20 VCC- (power)
part C pins: 6 IN R1- (in), 7 IN R1+ (in), 8 VCC+ (power), 9 OUT R1 (out), 10 VCC- (power)
part D pins: 11 VCC- (power), 12 OUT R2 (out), 13 VCC+ (power), 14 IN R2+ (in), 15 IN R2- (in)

## THS6002CDWPG4
designator U?
Dual Differential Line Driver / Receiver, 9 to 32 V, 0 to 70 degC, 20-pin SOP (DWP20), Green (RoHS & no Sb/Br); Manufacturer: Texas Instruments; PartNumber: THS6002CDWPG4; 2nd Harmonic(dBc): 70; 3rd Harmonic(dBc): 80; @ MHz: 1; BW @ Acl(MHz): 140; Diff Gain(%): 0.05; Diff Phase(deg): 0.08; Iib(Max)(nA): 12000; Io(Typ)(mA): 500; Iq per channel(Max)(mA): 15; Number of Channels: 4; Slew Rate(Typ)(V/us): 1000; Sub Family: High Output Current Amplifier (>=50mA), High Speed Amplifier (>=50MHz), High Supply Voltage Amplifier (>=30V); THD (Fc is 1 MHz)(Typ)(dB): -62; Vio(Max)(mV): 5; Vn at Flatband(Typ)(nV/rtHz): 1.7; Vs(Max)(V): 32; Vs(Min)(V): 9; DatasheetVersion: SLOS202E; PackageVersion: 4147575/C, 02/2005; PackageReference: DWP20-3470X2350TP; PackageDescription: 20-Pin PowerPAD(TM) Plastic Small-Outline Package, Body 12.825 x 7.52 mm, Pitch 1.27 mm; Supplier 1: Digi-Key; Supplier Part Number 1: THS6002CDWPG4-ND; Supplier 2: Newark; Supplier Part Number 2: 99K4331; Supplier 3: Mouser; Supplier Part Number 3: 595-THS6002CDWPG4; Acl, min stable gain(V/V): 1; Eco-Plan: Green (RoHS & no Sb/Br); Settling Time (0.1%)(Typ)(ns): 70; Mounting Technology: Surface Mount; ComponentLink1Description: Manufacturer URL; ComponentLink1URL: http://www.ti.com/; ComponentLink2Description: Datasheet; ComponentLink2URL: http://www.ti.com/general/docs/lit/getliterature.tsp?genericPartNumber=THS6002&fileType=pdf; ComponentLink3Description: Package Specification; ComponentLink3URL: http://www.ti.com/lit/ml/mpds032b/mpds032b.pdf
footprint TI-DWP20-3470X2350TP_N (SOP, 20-Leads, Body 12.825x7.52mm, Pitch 1.27mm, Thermal Pad 3.47x2.35mm, IPC Medium Density)
footprint TI-DWP20-3470X2350TP_L (SOP, 20-Leads, Body 12.825x7.52mm, Pitch 1.27mm, Thermal Pad 3.47x2.35mm, IPC High Density)
footprint TI-DWP20-3470X2350TP_M (SOP, 20-Leads, Body 12.825x7.52mm, Pitch 1.27mm, Thermal Pad 3.47x2.35mm, IPC Low Density)
pins on every part: 21 EP (power)
part A pins: 1 VCC- (power), 2 OUT D1 (out), 3 VCC+ (power), 4 IN D1+ (in), 5 IN D1- (in)
part B pins: 16 IN D2- (in), 17 IN D2+ (in), 18 VCC+ (power), 19 OUT D2 (out), 20 VCC- (power)
part C pins: 6 IN R1- (in), 7 IN R1+ (in), 8 VCC+ (power), 9 OUT R1 (out), 10 VCC- (power)
part D pins: 11 VCC- (power), 12 OUT R2 (out), 13 VCC+ (power), 14 IN R2+ (in), 15 IN R2- (in)

## THS6002IDWP
designator U?
Dual Differential Line Driver / Receiver, 9 to 32 V, -40 to 85 degC, 20-pin SOP (DWP20), Green (RoHS & no Sb/Br); Manufacturer: Texas Instruments; PartNumber: THS6002IDWP; 2nd Harmonic(dBc): 70; 3rd Harmonic(dBc): 80; @ MHz: 1; BW @ Acl(MHz): 140; Diff Gain(%): 0.05; Diff Phase(deg): 0.08; Iib(Max)(nA): 12000; Io(Typ)(mA): 500; Iq per channel(Max)(mA): 15; Number of Channels: 4; Slew Rate(Typ)(V/us): 1000; Sub Family: High Output Current Amplifier (>=50mA), High Speed Amplifier (>=50MHz), High Supply Voltage Amplifier (>=30V); THD (Fc is 1 MHz)(Typ)(dB): -62; Vio(Max)(mV): 5; Vn at Flatband(Typ)(nV/rtHz): 1.7; Vs(Max)(V): 32; Vs(Min)(V): 9; DatasheetVersion: SLOS202E; PackageVersion: 4147575/C, 02/2005; PackageReference: DWP20-3470X2350TP; PackageDescription: 20-Pin PowerPAD(TM) Plastic Small-Outline Package, Body 12.825 x 7.52 mm, Pitch 1.27 mm; Supplier 1: Digi-Key; Supplier Part Number 1: 296-1766-5-ND; Supplier 2: Newark; Supplier Part Number 2: 76C6507; Supplier 3: Mouser; Supplier Part Number 3: 595-THS6002IDWP; Acl, min stable gain(V/V): 1; Eco-Plan: Green (RoHS & no Sb/Br); Settling Time (0.1%)(Typ)(ns): 70; Mounting Technology: Surface Mount; ComponentLink1Description: Manufacturer URL; ComponentLink1URL: http://www.ti.com/; ComponentLink2Description: Datasheet; ComponentLink2URL: http://www.ti.com/general/docs/lit/getliterature.tsp?genericPartNumber=THS6002&fileType=pdf; ComponentLink3Description: Package Specification; ComponentLink3URL: http://www.ti.com/lit/ml/mpds032b/mpds032b.pdf
footprint TI-DWP20-3470X2350TP_N (SOP, 20-Leads, Body 12.825x7.52mm, Pitch 1.27mm, Thermal Pad 3.47x2.35mm, IPC Medium Density)
footprint TI-DWP20-3470X2350TP_L (SOP, 20-Leads, Body 12.825x7.52mm, Pitch 1.27mm, Thermal Pad 3.47x2.35mm, IPC High Density)
footprint TI-DWP20-3470X2350TP_M (SOP, 20-Leads, Body 12.825x7.52mm, Pitch 1.27mm, Thermal Pad 3.47x2.35mm, IPC Low Density)
pins on every part: 21 EP (power)
part A pins: 1 VCC- (power), 2 OUT D1 (out), 3 VCC+ (power), 4 IN D1+ (in), 5 IN D1- (in)
part B pins: 16 IN D2- (in), 17 IN D2+ (in), 18 VCC+ (power), 19 OUT D2 (out), 20 VCC- (power)
part C pins: 6 IN R1- (in), 7 IN R1+ (in), 8 VCC+ (power), 9 OUT R1 (out), 10 VCC- (power)
part D pins: 11 VCC- (power), 12 OUT R2 (out), 13 VCC+ (power), 14 IN R2+ (in), 15 IN R2- (in)

## THS6002IDWPG4
designator U?
Dual Differential Line Driver / Receiver, 9 to 32 V, -40 to 85 degC, 20-pin SOP (DWP20), Green (RoHS & no Sb/Br); Manufacturer: Texas Instruments; PartNumber: THS6002IDWPG4; 2nd Harmonic(dBc): 70; 3rd Harmonic(dBc): 80; @ MHz: 1; BW @ Acl(MHz): 140; Diff Gain(%): 0.05; Diff Phase(deg): 0.08; Iib(Max)(nA): 12000; Io(Typ)(mA): 500; Iq per channel(Max)(mA): 15; Number of Channels: 4; Slew Rate(Typ)(V/us): 1000; Sub Family: High Output Current Amplifier (>=50mA), High Speed Amplifier (>=50MHz), High Supply Voltage Amplifier (>=30V); THD (Fc is 1 MHz)(Typ)(dB): -62; Vio(Max)(mV): 5; Vn at Flatband(Typ)(nV/rtHz): 1.7; Vs(Max)(V): 32; Vs(Min)(V): 9; DatasheetVersion: SLOS202E; PackageVersion: 4147575/C, 02/2005; PackageReference: DWP20-3470X2350TP; PackageDescription: 20-Pin PowerPAD(TM) Plastic Small-Outline Package, Body 12.825 x 7.52 mm, Pitch 1.27 mm; Supplier 1: Digi-Key; Supplier Part Number 1: THS6002IDWPG4-ND; Supplier 2: Newark; Supplier Part Number 2: 28M7741; Supplier 3: Mouser; Supplier Part Number 3: 595-THS6002IDWPG4; Acl, min stable gain(V/V): 1; Eco-Plan: Green (RoHS & no Sb/Br); Settling Time (0.1%)(Typ)(ns): 70; Mounting Technology: Surface Mount; ComponentLink1Description: Manufacturer URL; ComponentLink1URL: http://www.ti.com/; ComponentLink2Description: Datasheet; ComponentLink2URL: http://www.ti.com/general/docs/lit/getliterature.tsp?genericPartNumber=THS6002&fileType=pdf; ComponentLink3Description: Package Specification; ComponentLink3URL: http://www.ti.com/lit/ml/mpds032b/mpds032b.pdf
footprint TI-DWP20-3470X2350TP_N (SOP, 20-Leads, Body 12.825x7.52mm, Pitch 1.27mm, Thermal Pad 3.47x2.35mm, IPC Medium Density)
footprint TI-DWP20-3470X2350TP_L (SOP, 20-Leads, Body 12.825x7.52mm, Pitch 1.27mm, Thermal Pad 3.47x2.35mm, IPC High Density)
footprint TI-DWP20-3470X2350TP_M (SOP, 20-Leads, Body 12.825x7.52mm, Pitch 1.27mm, Thermal Pad 3.47x2.35mm, IPC Low Density)
pins on every part: 21 EP (power)
part A pins: 1 VCC- (power), 2 OUT D1 (out), 3 VCC+ (power), 4 IN D1+ (in), 5 IN D1- (in)
part B pins: 16 IN D2- (in), 17 IN D2+ (in), 18 VCC+ (power), 19 OUT D2 (out), 20 VCC- (power)
part C pins: 6 IN R1- (in), 7 IN R1+ (in), 8 VCC+ (power), 9 OUT R1 (out), 10 VCC- (power)
part D pins: 11 VCC- (power), 12 OUT R2 (out), 13 VCC+ (power), 14 IN R2+ (in), 15 IN R2- (in)

## THS6002IDWPR
designator U?
Dual Differential Line Driver / Receiver, 9 to 32 V, -40 to 85 degC, 20-pin SOP (DWP20), Green (RoHS & no Sb/Br); Manufacturer: Texas Instruments; PartNumber: THS6002IDWPR; 2nd Harmonic(dBc): 70; 3rd Harmonic(dBc): 80; @ MHz: 1; BW @ Acl(MHz): 140; Diff Gain(%): 0.05; Diff Phase(deg): 0.08; Iib(Max)(nA): 12000; Io(Typ)(mA): 500; Iq per channel(Max)(mA): 15; Number of Channels: 4; Slew Rate(Typ)(V/us): 1000; Sub Family: High Output Current Amplifier (>=50mA), High Speed Amplifier (>=50MHz), High Supply Voltage Amplifier (>=30V); THD (Fc is 1 MHz)(Typ)(dB): -62; Vio(Max)(mV): 5; Vn at Flatband(Typ)(nV/rtHz): 1.7; Vs(Max)(V): 32; Vs(Min)(V): 9; DatasheetVersion: SLOS202E; PackageVersion: 4147575/C, 02/2005; PackageReference: DWP20-3470X2350TP; PackageDescription: 20-Pin PowerPAD(TM) Plastic Small-Outline Package, Body 12.825 x 7.52 mm, Pitch 1.27 mm; Supplier 1: Digi-Key; Supplier Part Number 1: THS6002IDWPR-ND; Supplier 2: Newark; Supplier Part Number 2: 76C6508; Supplier 3: Mouser; Supplier Part Number 3: 595-THS6002IDWPR; Acl, min stable gain(V/V): 1; Eco-Plan: Green (RoHS & no Sb/Br); Settling Time (0.1%)(Typ)(ns): 70; Mounting Technology: Surface Mount; ComponentLink1Description: Manufacturer URL; ComponentLink1URL: http://www.ti.com/; ComponentLink2Description: Datasheet; ComponentLink2URL: http://www.ti.com/general/docs/lit/getliterature.tsp?genericPartNumber=THS6002&fileType=pdf; ComponentLink3Description: Package Specification; ComponentLink3URL: http://www.ti.com/lit/ml/mpds032b/mpds032b.pdf
footprint TI-DWP20-3470X2350TP_N (SOP, 20-Leads, Body 12.825x7.52mm, Pitch 1.27mm, Thermal Pad 3.47x2.35mm, IPC Medium Density)
footprint TI-DWP20-3470X2350TP_L (SOP, 20-Leads, Body 12.825x7.52mm, Pitch 1.27mm, Thermal Pad 3.47x2.35mm, IPC High Density)
footprint TI-DWP20-3470X2350TP_M (SOP, 20-Leads, Body 12.825x7.52mm, Pitch 1.27mm, Thermal Pad 3.47x2.35mm, IPC Low Density)
pins on every part: 21 EP (power)
part A pins: 1 VCC- (power), 2 OUT D1 (out), 3 VCC+ (power), 4 IN D1+ (in), 5 IN D1- (in)
part B pins: 16 IN D2- (in), 17 IN D2+ (in), 18 VCC+ (power), 19 OUT D2 (out), 20 VCC- (power)
part C pins: 6 IN R1- (in), 7 IN R1+ (in), 8 VCC+ (power), 9 OUT R1 (out), 10 VCC- (power)
part D pins: 11 VCC- (power), 12 OUT R2 (out), 13 VCC+ (power), 14 IN R2+ (in), 15 IN R2- (in)

## THS6002IDWPRG4
designator U?
Dual Differential Line Driver / Receiver, 9 to 32 V, -40 to 85 degC, 20-pin SOP (DWP20), Green (RoHS & no Sb/Br); Manufacturer: Texas Instruments; PartNumber: THS6002IDWPRG4; 2nd Harmonic(dBc): 70; 3rd Harmonic(dBc): 80; @ MHz: 1; BW @ Acl(MHz): 140; Diff Gain(%): 0.05; Diff Phase(deg): 0.08; Iib(Max)(nA): 12000; Io(Typ)(mA): 500; Iq per channel(Max)(mA): 15; Number of Channels: 4; Slew Rate(Typ)(V/us): 1000; Sub Family: High Output Current Amplifier (>=50mA), High Speed Amplifier (>=50MHz), High Supply Voltage Amplifier (>=30V); THD (Fc is 1 MHz)(Typ)(dB): -62; Vio(Max)(mV): 5; Vn at Flatband(Typ)(nV/rtHz): 1.7; Vs(Max)(V): 32; Vs(Min)(V): 9; DatasheetVersion: SLOS202E; PackageVersion: 4147575/C, 02/2005; PackageReference: DWP20-3470X2350TP; PackageDescription: 20-Pin PowerPAD(TM) Plastic Small-Outline Package, Body 12.825 x 7.52 mm, Pitch 1.27 mm; Supplier 1: Digi-Key; Supplier Part Number 1: THS6002IDWPRG4-ND; Supplier 2: Newark; Supplier Part Number 2: 61K1744; Supplier 3: Mouser; Supplier Part Number 3: 595-THS6002IDWPRG4; Acl, min stable gain(V/V): 1; Eco-Plan: Green (RoHS & no Sb/Br); Settling Time (0.1%)(Typ)(ns): 70; Mounting Technology: Surface Mount; ComponentLink1Description: Manufacturer URL; ComponentLink1URL: http://www.ti.com/; ComponentLink2Description: Datasheet; ComponentLink2URL: http://www.ti.com/general/docs/lit/getliterature.tsp?genericPartNumber=THS6002&fileType=pdf; ComponentLink3Description: Package Specification; ComponentLink3URL: http://www.ti.com/lit/ml/mpds032b/mpds032b.pdf
footprint TI-DWP20-3470X2350TP_N (SOP, 20-Leads, Body 12.825x7.52mm, Pitch 1.27mm, Thermal Pad 3.47x2.35mm, IPC Medium Density)
footprint TI-DWP20-3470X2350TP_L (SOP, 20-Leads, Body 12.825x7.52mm, Pitch 1.27mm, Thermal Pad 3.47x2.35mm, IPC High Density)
footprint TI-DWP20-3470X2350TP_M (SOP, 20-Leads, Body 12.825x7.52mm, Pitch 1.27mm, Thermal Pad 3.47x2.35mm, IPC Low Density)
pins on every part: 21 EP (power)
part A pins: 1 VCC- (power), 2 OUT D1 (out), 3 VCC+ (power), 4 IN D1+ (in), 5 IN D1- (in)
part B pins: 16 IN D2- (in), 17 IN D2+ (in), 18 VCC+ (power), 19 OUT D2 (out), 20 VCC- (power)
part C pins: 6 IN R1- (in), 7 IN R1+ (in), 8 VCC+ (power), 9 OUT R1 (out), 10 VCC- (power)
part D pins: 11 VCC- (power), 12 OUT R2 (out), 13 VCC+ (power), 14 IN R2+ (in), 15 IN R2- (in)